# EAGLE library part LIN (library Diplomarbeit)
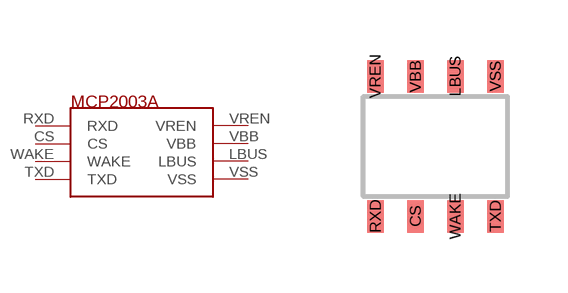
[diagram p8: symbol with the pads of LIN; footprint LIN]

Designator prefix -

## LIN  [LIN]
CS  CS
LBUS  LBUS
RXD  RXD
TXD  TXD
VBB  VBB
VREN  VREN
VSS  VSS
WAKE  WAKE

## Footprint LIN (pad centres in mm)
smd 0.406 x 0.813: CS -0.5,-1.75; LBUS 0.5,1.75; RXD -1.5,-1.75; TXD 1.5,-1.75; VBB -0.5,1.75; VREN -1.5,1.75; VSS 1.5,1.75; WAKE 0.5,-1.75